# Altium schematic symbol library schlib.SchLib: 132 symbols (part 1 of 2)
Pins are listed as number, name and electrical type; pins without a type are passive.

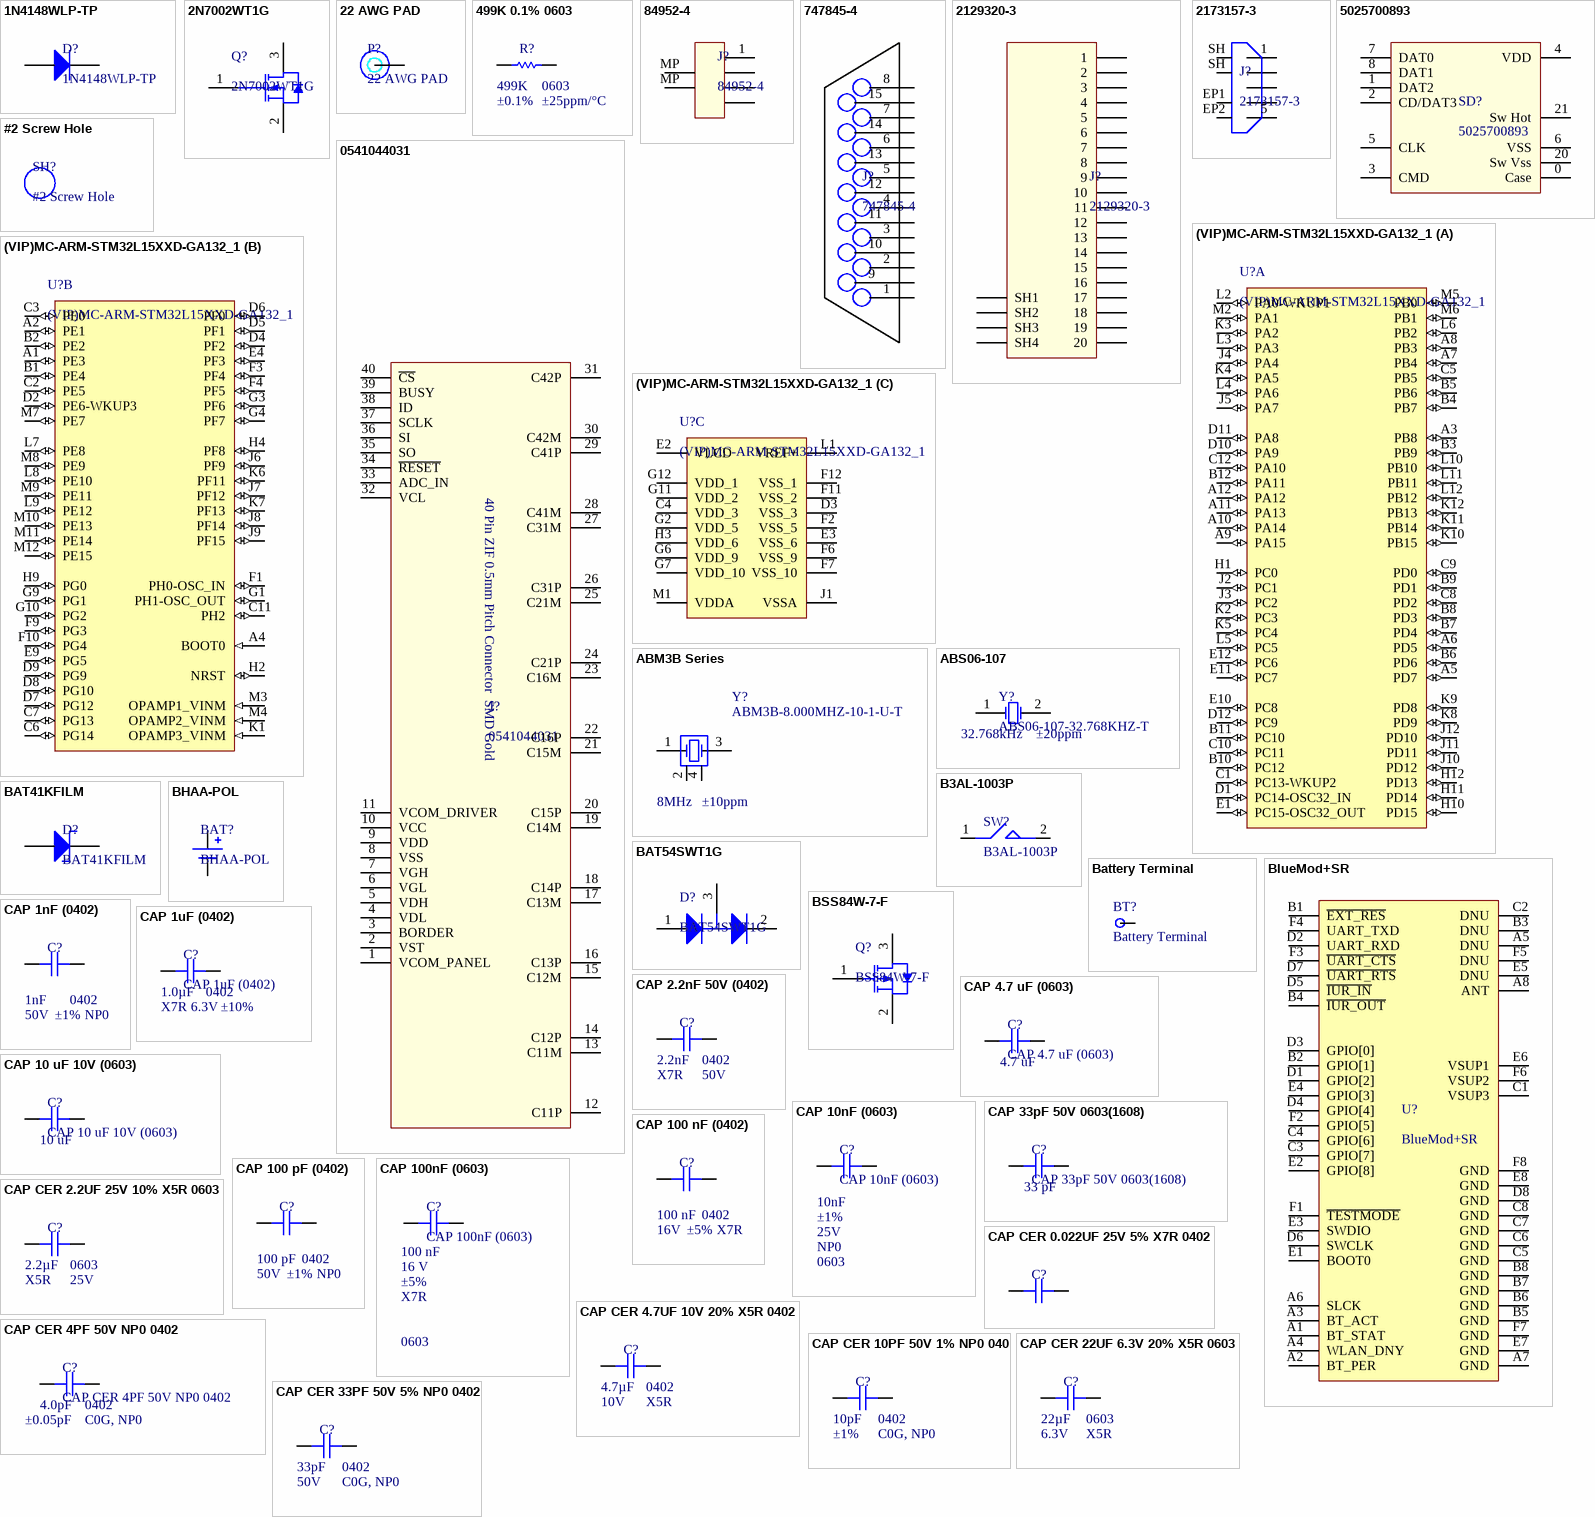
[diagram p0: symbols 1N4148WLP-TP to CAP CER 33PF 50V 5% NP0 0402]

## 1N4148WLP-TP
designator D?
DIODE SMALL SIG 80V 0.1A SOD882; Diode Type: Standard; Current - Average Rectified (Io): 100mA; Voltage - Forward (Vf) (Max) @ If: 1.2V @ 100mA; Speed: Small Signal =< 200mA (Io), Any Speed; Reverse Recovery Time (trr): 4ns; Current - Reverse Leakage @ Vr: 100nA @ 80V; Voltage - DC Reverse (Vr) (Max): 80V; Package / Case: SOD-882
footprint SOD-882 (SOD-882 Surface Mount Package)
pins: 1, 2

## 2N7002WT1G
designator Q?
MOSFET N-CH 60V 310MA SOT323; FET Type: MOSFET N-Channel, Metal Oxide; FET Feature: Logic Level Gate; Current - Continuous Drain (Id) @ 25°C: 310mA (Ta); Rds On (Max) @ Id, Vgs: 1.6 Ohm @ 500mA, 10V; Vgs(th) (Max) @ Id: 2.5V @ 250µA; Gate Charge (Qg) @ Vgs: 0.7nC @ 4.5V; Input Capacitance (Ciss) @ Vds: 24.5pF @ 20V; Power - Max: 280mW; Drain to Source Voltage (Vdss): 60V; Package / Case: SC-70, SOT-323
footprint SOT-323 (SOT23, 3-Leads, Body 2x1.25mm, Pitch 0.65mm)
pins: 1 G, 2 S, 3 D

## 22 AWG PAD
designator P?
Pad fpr 22 awg wire
footprint 22 AWG PAD (Pad/Via for 22 awg wire)
pins: VIA

## 499K 0.1% 0603
designator R?  value 499K  Size / Package: 0603  Tolerance: ±0.1%  Temperature Coefficient: ±25ppm/°C  (hidden comment: 499K 0.1% 0603)
499K 0.1W 0.1% 0603 (1608 Metric) SMD; Power (Watts): 0.063W, 1/16W
footprint RES 0603 (Chip Resistor, Body 1.6x0.8mm, IPC Medium Density)
pins: 1, 2

## 84952-4
designator J?
CONN FPC BOTTOM 4POS 1.00MM R/A; Connector/Contact Type: Contacts, Bottom; Number of Positions: 4; Pitch: 0.039" (1.00mm); FFC,FCB Thickness: 0.30mm; Locking Feature: Slide Lock; Cable End Type: Straight; Flat Flex Type: FPC; Mounting Type: Surface Mount, Right Angle; Termination: Solder; Contact Material: Phosphor Bronze; Contact Finish: Tin
footprint 84952-4 (CONN FPC BOTTOM 4POS 1.00MM R/A)
pins: 1, 2, 3, 4, MP, MP

## 747845-4
designator J?
CONN D-SUB RCPT R/A 15POS PCB AU; Connector Type: Receptacle, Female Sockets; Number of Positions: 15; Flange Feature: Housing/Shell (4-40); Voltage Rating: 125V; Current Rating: 6A; Connector Style: D-Sub; Number of Rows: 2; Shell Size, Connector Layout: 2 (DA, A); Contact Type: Signal; Mounting Type: Through Hole, Right Angle; Termination: Solder; Features: Board Lock, Ground Strap; Shell Material, Finish: Steel, Tin Plated; Contact Finish: Gold; Contact Finish Thickness: 30µin (0.76µm); Operating Temperature: -55°C ~ 105°C; Housing Material: Thermoplastic
footprint 747845-4 (CONN D-SUB RCPT R/A 15POS PCB AU)
pins: 1, 2, 3, 4, 5, 6, 7, 8, 9, 10, 11, 12, 13, 14, 15

## 2129320-3
designator J?
Mini Displayport Reverse Offset
footprint 2129320-3 (Mini Displayport Reverse Offset)
pins: 1, 2, 3, 4, 5, 6, 7, 8, 9, 10, 11, 12, 13, 14, 15, 16, 17, 18, 19, 20, SH1, SH2, SH3, SH4

## 2173157-3
designator J?
USB Connectors SPLASH PROOF MICRO 5P USB B-TYPE; Number of Ports: 1; Number of Contacts: 5; Gender: Female; Brand: TE Connectivity; Mounting Angle: Right; Product: Micro USB Type B Connectors; Standard: USB 2.0; Termination Style: SMD; Contact Material: Copper Alloy; Contact Plating: Gold; Shell Plating: Tin
footprint 2173157-3 (Splash Proof Micro USB B-Type low MOQ)
pins: 1 5V, 2 D-, 3 D+, 4 ID, 5 GND, EP1, EP2, SH, SH

## 0541044031
designator J?
CONN FFC 40POS 0.50MM SMD R/A; Flat Flex Type: FFC, FPC; Connector/Contact Type: Contacts, Top; Number of Positions: 40; Pitch: 0.020" (0.50mm); FFC, FCB Thickness: 0.30mm; Locking Type: Slide Lock; Cable End Type: Straight, Tapered; Actuator Material: Polyphenylene Sulfide (PPS), Glass Filled; Voltage Rating: 50V; Current Rating: 0.5A; Mounting Type: Surface Mount, Right Angle; Termination: Solder; Height Above Board: 0.079" (2.00mm); Contact Material: Phosphor Bronze; Contact Finish: Gold; Housing Type: Polyamide (PA46), Nylon 4/6, Glass Filled; Features: Solder Retention, Zero Insertion Force (ZIF); Operating Temperature: -20°C ~ 85°C
footprint 0541044031 (CONN FFC 40POS 0.50MM SMD R/A)
pins: 1 VCOM_PANEL, 2 VST, 3 BORDER, 4 VDL, 5 VDH, 6 VGL, 7 VGH, 8 VSS, 9 VDD, 10 VCC, 11 VCOM_DRIVER, 12 C11P, 13 C11M, 14 C12P, 15 C12M, 16 C13P, 17 C13M, 18 C14P, 19 C14M, 20 C15P, 21 C15M, 22 C16P, 23 C16M, 24 C21P, 25 C21M, 26 C31P, 27 C31M, 28 C41M, 29 C41P, 30 C42M, 31 C42P, 32 VCL, 33 ADC_IN, 34 ~{RESET}, 35 SO, 36 SI, 37 SCLK, 38 ID, 39 BUSY, 40 ~{CS}
text: 40 Pin ZIF 0.5mm Pitch Connector  SMD Gold

## 5025700893
designator SD?
CONN MICRO SD CARD PUSH-PUSH R/A; Card Type: Secure Digital - microSD™; Number of Positions: 10 (8 + 2); Card Type: Connector and Ejector; Insertion, Removal Method: Push In, Push Out; Mounting Type: Surface Mount, Right Angle; Features: Switch; Height Above Board: 0.071" (1.80mm); Contact Finish: Gold; Contact Finish Thickness: 20µin (0.51µm)
footprint 502570 (CONN MICRO SD CARD PUSH-PUSH R/A)
pins: 0 Case, 1 DAT2, 2 CD/DAT3, 3 CMD, 4 VDD, 5 CLK, 6 VSS, 7 DAT0, 8 DAT1, 20 Sw Vss, 21 Sw Hot

## #2 Screw Hole
designator SH?
Symbol for #2 Screw Hole
footprint #2 Screw Hole (Screw Hole for #2 Screw)

## (VIP)MC-ARM-STM32L15XXD-GA132_1
designator U?
MCU ARM 384KB FLASH 132BGA; Core Processor: ARM® Cortex®-M3; Core Size: 32-Bit; Soeed: 32MHz; Connectivity: I²C, IrDA, LIN, SPI, UART/USART, USB; number of I/O: 109; Program Memory Size: 384KB (384K x 8); EEPROM Size: 12K x 8; RAM Size: 48K x 8; Voltage - Supply (Vcc/Vdd): 1.8 V ~ 3.6 V; Program Memory Type: FLASH; Operating Temperature: -40°C ~ 85°C; Package / Case: 132-UFBGA
footprint (VIP)STM-UFBGA132 (BGA, 132-Balls, Body 7x7mm, Pitch 0.5mm)
part A pins: A3 PB8 (io) "PB8/TIM4_CH3/TIM10_CH1/I2C1_SCL/LCD_SEG16/SDIO_D4", A5 PD7 (io) "PD7/TIM9_CH2/USART2_CK/FSMC_NE1", A6 PD5 (io) "PD5/USART2_TX/FSMC_NWE", A7 PB4 (io) "PB4/NJTRST/TIM3_CH1/SPI1_MISO/SPI3_MISO/LCD_SEG8/COMP2_INP", A8 PB3 (io) "PB3/JTDO/TIM2_CH2/SPI1_SCK/SPI3_SCK/I2S3_CK/LCD_SEG7/COMP2_INM", A9 PA15 (io) "PA15/JTDI/TIM2_CH1_ETR/SPI1_NSS/SPI3_NSS/I2S3_WS/LCD_SEG17", A10 PA14 (io) "PA14/JTCK-SWCLK", A11 PA13 (io) "PA13/JTMS-SWDAT", A12 PA12 (io) "PA12/USART1_RTS/USB_DP/SPI1_MOSI", B3 PB9 (io) "PB9/TIM4_CH4/TIM11_CH1/I2C1_SDA/LCD_COM3/SDIO_D5", B4 PB7 (io) "PB7/TIM4_CH2/I2C1_SDA/USART1_RX/PVD_IN/FSMC_NADV/COMP2_INP", B5 PB6 (io) "PB6/TIM4_CH1/I2C1_SCL/USART1_TX/COMP2_INP", B6 PD6 (io) "PD6/USART2_RX/FSMC_NWAIT", B7 PD4 (io) "PD4/SPI2_MOSI/I2S2_SD/USART2_RTS/FSMC_NOE", B8 PD3 (io) "PD3/SPI2_MISO/USART2_CTS/FSMC_CLK", B9 PD1 (io) "PD1/SPI2_SCK/I2S2_CK/FSMC_D3", B10 PC12 (io) "PC12/SPI3_MOSI/I2S3_SD/USART3_CK/UART5_TX/LCD_SEG30/LCD_SEG42/LCD_COM6/SDIO_CK", B11 PC10 (io) "PC10/SPI3_SCK/I2S3_CK/USART3_TX/UART4_TX/LCD_SEG28/LCD_SEG40/LCD_COM4/SDIO_D2", B12 PA11 (io) "PA11/USART1_CTS/USB_DM/SPI1_MISO", C1 PC13-WKUP2 (io) "PC13-WKUP2/PC13/WKUP2/RTC_TAMP1/RTC_TS/RTC_OUT", C5 PB5 (io) "PB5/TIM3_CH2/I2C1_SMBA/SPI1_MOSI/SPI3_MOSI/I2S3_SD/LCD_SEG9/COMP2_INP", C8 PD2 (io) "PD2/TIM3_ETR/UART5_RX/LCD_SEG31/LCD_SEG43/LCD_COM7/SDIO_CMD", C9 PD0 (io) "PD0/TIM9_CH1/SPI2_NSS/I2S2_WS/FSMC_D2", C10 PC11 (io) "PC11/SPI3_MISO/USART3_RX/UART4_RX/LCD_SEG29/LCD_SEG41/LCD_COM5/SDIO_D3", C12 PA10 (io) "PA10/USART1_RX/LCD_COM2", D1 PC14-OSC32_IN (io) "PC14-OSC32_IN/PC14/OSC32_IN", D10 PA9 (io) "PA9/USART1_TX/LCD_COM1", D11 PA8 (io) "PA8/USART1_CK/MCO/LCD_COM0", D12 PC9 (io) "PC9/TIM3_CH4/LCD_SEG27/SDIO_D1", E1 PC15-OSC32_OUT (io) "PC15-OSC32_OUT/PC15/OSC32_OUT", E10 PC8 (io) "PC8/TIM3_CH3/LCD_SEG26/SDIO_D0", E11 PC7 (io) "PC7/TIM3_CH2/I2S3_MCK/LCD_SEG25/SDIO_D7", E12 PC6 (io) "PC6/TIM3_CH1/I2S2_MCK/LCD_SEG24/SDIO_D6", H1 PC0 (io) "PC0/LCD_SEG18/ADC_IN10/COMP1_INP", H10 PD15 (io) "PD15/TIM4_CH4/LCD_SEG35/FSMC_D1", H11 PD14 (io) "PD14/TIM4_CH3/LCD_SEG34/FSMC_D0", H12 PD13 (io) "PD13/TIM4_CH2/LCD_SEG33/FSMC_A18", J2 PC1 (io) "PC1/LCD_SEG19/ADC_IN11/COMP1_INP/OPAMP3_VINP", J3 PC2 (io) "PC2/LCD_SEG20/ADC_IN12/COMP1_INP", J4 PA4 (io) "PA4/SPI1_NSS/SPI3_NSS/I2S3_WS/USART2_CK/ADC_IN4/DAC_OUT1/COMP1_INP", J5 PA7 (io) "PA7/TIM3_CH2/TIM11_CH1/SPI1_MOSI/LCD_SEG4/ADC_IN7/COMP1_INP", J10 PD12 (io) "PD12/TIM4_CH1/USART3_RTS/LCD_SEG32/FSMC_A17", J11 PD11 (io) "PD11/USART3_CTS/LCD_SEG31/FSMC_A16", J12 PD10 (io) "PD10/USART3_CK/LCD_SEG30/FSMC_D15", K2 PC3 (io) "PC3/LCD_SEG21/ADC_IN13/COMP1_INP/OPAMP3_VOUT", K3 PA2 (io) "PA2/TIM2_CH3/TIM5_CH3/TIM9_CH1/USART2_TX/LCD_SEG1/ADC_IN2/COMP1_INP", K4 PA5 (io) "PA5/TIM2_CH1_ETR/SPI1_SCK/ADC_IN5/DAC_OUT2/COMP1_INP", K5 PC4 (io) "PC4/LCD_SEG22/ADC_IN14/COMP1_INP", K8 PD9 (io) "PD9/USART3_RX/LCD_SEG29/FSMC_D14", K9 PD8 (io) "PD8/USART3_TX/LCD_SEG28/FSMC_D13", K10 PB15 (io) "PB15/TIM11_CH1/SPI2_MOSI/I2S2_SD/LCD_SEG15/ADC_IN21/COMP1_INP/RTC_REFIN", K11 PB14 (io) "PB14/TIM9_CH2/SPI2_MISO/USART3_RTS/LCD_SEG14/ADC_IN20/COMP1_INP", K12 PB13 (io) "PB13/TIM9_CH1/SPI2_SCK/I2S2_CK/USART3_CTS/LCD_SEG13/ADC_IN19/COMP1_INP", L2 PA0-WKUP1 (io) "PA0-WKUP1/PA0/WKUP1/RTC_TAMP2/TIM2_CH1_ETR/TIM5_CH1/USART2_CTS/ADC_IN0/COMP1_INP", L3 PA3 (io) "PA3/TIM2_CH4/TIM5_CH4/TIM9_CH2/USART2_RX/LCD_SEG2/ADC_IN3/COMP1_INP/OPAMP1_VOUT", L4 PA6 (io) "PA6/TIM3_CH1/TIM10_CH1/SPI1_MISO/LCD_SEG3/ADC_IN6/COMP1_INP/OPAMP2_VINP", L5 PC5 (io) "PC5/LCD_SEG23/ADC_IN15/COMP1_INP", L6 PB2 (io) "PB2/BOOT1/ADC_IN0B/COMP1_INP", L10 PB10 (io) "PB10/TIM2_CH3/I2C2_SCL/USART3_TX/LCD_SEG10", L11 PB11 (io) "PB11/TIM2_CH4/I2C2_SDA/USART3_RX/LCD_SEG11", L12 PB12 (io) "PB12/TIM10_CH1/I2C2_SMBA/SPI2_NSS/I2S2_WS/USART3_CK/LCD_SEG12/ADC_IN18/COMP1_INP", M2 PA1 (io) "PA1/TIM2_CH2/TIM5_CH2/USART2_RTS/LCD_SEG0/ADC_IN1/COMP1_INP/OPAMP1_VINP", M5 PB0 (io) "PB0/TIM3_CH3/LCD_SEG5/ADC_IN8/COMP1_INP/VREF_OUT/OPAMP2_VOUT", M6 PB1 (io) "PB1/TIM3_CH4/LCD_SEG6/ADC_IN9/COMP1_INP/VREF_OUT"
part B pins: A1 PE3 (io) "PE3/TIM3_CH1/LCD_SEG39/FSMC_A19/TRACED0", A2 PE1 (io) "PE1/TIM11_CH1/LCD_SEG37/FSMC_NBL1", A4 BOOT0 (in), B1 PE4 (io) "PE4/TIM3_CH2/FSMC_A20/TRACED1", B2 PE2 (io) "PE2/TIM3_ETR/LCD_SEG38/FSMC_A23/TRACECLK", C2 PE5 (io) "PE5/TIM9_CH1/FSMC_A21/TRACED2", C3 PE0 (io) "PE0/TIM4_ETR/TIM10_CH1/LCD_SEG36/FSMC_NBL0", C6 PG14 (io) "PG14/FSMC_A25", C7 PG13 (io) "PG13/FSMC_A24", C11 PH2 (io) "PH2/FSMC_A22", D2 PE6-WKUP3 (io) "PE6-WKUP3/PE6/WKUP3/RTC_TAMP3/TIM9_CH2/TRACED3", D4 PF2 (io) "PF2/FSMC_A2", D5 PF1 (io) "PF1/FSMC_A1", D6 PF0 (io) "PF0/FSMC_A0", D7 PG12 (io) "PG12/FSMC_NE4", D8 PG10 (io) "PG10/FSMC_NE3", D9 PG9 (io) "PG9/FSMC_NE2", E4 PF3 (io) "PF3/FSMC_A3", E9 PG5 (io) "PG5/FSMC_A15", F1 PH0-OSC_IN (io) "PH0-OSC_IN/PH0/OSC_IN", F3 PF4 (io) "PF4/FSMC_A4", F4 PF5 (io) "PF5/FSMC_A5", F9 PG3 (io) "PG3/FSMC_A13/ADC_IN11B/COMP1_INP", F10 PG4 (io) "PG4/FSMC_A14/ADC_IN12B/COMP1_INP", G1 PH1-OSC_OUT (io) "PH1-OSC_OUT/PH1/OSC_OUT", G3 PF6 (io) "PF6/TIM5_CH1/TIM5_ETR/ADC_IN27", G4 PF7 (io) "PF7/TIM5_CH2/ADC_IN28/COMP1_INP", G9 PG1 (io) "PG1/ADC_IN9B/COMP1_INP/FSMC_A11", G10 PG2 (io) "PG2/FSMC_A12/ADC_IN10B/COMP1_INP", H2 NRST (io), H4 PF8 (io) "PF8/TIM5_CH3/ADC_IN29/COMP1_INP", H9 PG0 (io) "PG0/ADC_IN8B/COMP1_INP/FSMC_A10", J6 PF9 (io) "PF9/TIM5_CH4/ADC_IN30/COMP1_INP", J7 PF12 (io) "PF12/ADC_IN2B/COMP1_INP/FSMC_A6", J8 PF14 (io) "PF14/ADC_IN6B/COMP1_INP/FSMC_A8", J9 PF15 (io) "PF15/ADC_IN7B/COMP1_INP/FSMC_A9", K1 OPAMP3_VINM (in), K6 PF11 (io) "PF11/ADC_IN1B/COMP1_INP", K7 PF13 (io) "PF13/ADC_IN3B/COMP1_INP/FSMC_A7", L7 PE8 (io) "PE8/FSMC_D5/ADC_IN23/COMP1_INP", L8 PE10 (io) "PE10/TIM2_CH2/FSMC_D7/ADC_IN25/COMP1_INP", L9 PE12 (io) "PE12/TIM2_CH4/SPI1_NSS/FSMC_D9", M3 OPAMP1_VINM (in), M4 OPAMP2_VINM (in), M7 PE7 (io) "PE7/FSMC_D4/ADC_IN22/COMP1_INP", M8 PE9 (io) "PE9/TIM2_CH1_ETR/FSMC_D6/ADC_IN24/COMP1_INP", M9 PE11 (io) "PE11/TIM2_CH3/FSMC_D8", M10 PE13 (io) "PE13/SPI1_SCK/FSMC_D10", M11 PE14 (io) "PE14/SPI1_MISO/FSMC_D11", M12 PE15 (io) "PE15/SPI1_MOSI/FSMC_D12"
part C pins: C4 VDD_3 (power), D3 VSS_3 (power), E2 VLCD (power), E3 VSS_6 (power), F2 VSS_5 (power), F6 VSS_9 (power), F7 VSS_10 (power), F11 VSS_2 (power), F12 VSS_1 (power), G2 VDD_5 (power), G6 VDD_9 (power), G7 VDD_10 (power), G11 VDD_2 (power), G12 VDD_1 (power), H3 VDD_6 (power), J1 VSSA (power), L1 VREF+ (power), M1 VDDA (power)

## ABM3B Series
designator Y?, comment ABM3B-8.000MHZ-10-1-U-T  Frequency: 8MHz  Frequency Stability: ±10ppm
CRYSTAL 8MHZ 10PF SMD; ESR (Equivalent Series Resistance): 200 Ohm; Operating Mode: Fundamental; Frequency Tolerance: ±10ppm; Load Capacitance: 10pF; Operating Temperature: -10°C ~ 60°C; Package / Case: 4-SMD, No Lead (DFN, LCC)
footprint ABM3B Series (Abaracon Corporation ABM3B Series Crystal Oscillators)
pins: 1, 2, 3, 4

## ABS06-107
designator Y?, comment ABS06-107-32.768KHZ-T  Frequency: 32.768kHz  Frequency Tolerance: ±20ppm
CRYSTAL 32.768 KHZ 4PF SMD; ESR (Equivalent Series Resistance): 60 kOhm; Operating Mode: Fundamental; Type: kHz Crystal (Tuning Fork); Load Capacitance: 4pF; Operating Temperature: -40°C ~ 85°C; Package / Case: 0805 (2012 Metric); Size / Dimension: 0.079" L x 0.047" W (2.00mm x 1.20mm); Height: 0.024" (0.60mm)
footprint ABS06-107 (Abracon Corporations ABS06-107 Tuning Fork Crystak)
pins: 1, 2

## B3AL-1003P
designator SW?
SWITCH TACTILE SPST-NO 0.05A 16V; Switch Function: Off-Mom; Current Rating @ Voltage: 0.05A @ 16VDC; Actuator Type: Square Button; Actuator Height off PCB, from Pins: 5.00mm; Actuator Orientation: Top Actuated; Outline: 6.90mm x 6.00mm; Circuit: SPST-NO; Mounting Type: Surface Mount; Termination Type: SMD (SMT) Tab
footprint B3AL-1003P
pins: 1, 2

## BAT41KFILM
designator D?
DIODE SCHOTTKY 100V 200MA SOD523; Current - Average Rectified (Io): 200mA (DC); Voltage - Forward (Vf) (Max) @ If: 1V @ 200mA; Speed: Small Signal =< 200mA (Io), Any Speed; Current - Reverse Leakage @ Vr: 100nA @ 50V; Capacitance @ Vr, F: 10pF @ 1V, 1MHz; Diode Type: Schottky; Voltage - DC Reverse (Vr) (Max): 100V; Package / Case: SOD-523
footprint BAT41KFILM (DIODE SCHOTTKY 100V 200MA SOD523)
pins: 1, 2

## BAT54SWT1G
designator D?
DIODE SCHOTTKY 30V 200MA SOT323; Diode Configuration: 1 Pair Series Connection; Voltage - Forward (Vf) (Max) @ If: 800mV @ 100mA; Speed: Small Signal =< 200mA (Io), Any Speed; Reverse Recovery Time (trr): 5ns; Current - Reverse Leakage @ Vr: 2µA @ 25V; Package / Caae: SC-70, SOT-323; Diode Type: Schottky; Voltage - DC Reverse (Vr) (Max): 30V; Current - Average Rectified (Io) (per Diode): 200mA
footprint SOT-323 (SOT23, 3-Leads, Body 2x1.25mm, Pitch 0.65mm)
pins: 1 A, 2 K, 3 K/A

## Battery Terminal
designator BT?
Via Hole for Battery Leads
footprint Battery Terminal (Via Hole for Battery Leads)
pins: BT

## BHAA-POL
designator BAT?
HOLDER BATT AA POLAR PROTECTION
footprint BHAA-POL (HOLDER BATT AA POLAR PROTECTION)
pins: 1 POS, 2 NEG

## BlueMod+SR
designator U?
Bluetooth Dual Mode Module with NFC Handover
footprint BlueMod+SR (Bluetooth Dual Mode Module with NFC Handover)
pins: A1 BT_STAT, A2 BT_PER, A3 BT_ACT, A4 WLAN_DNY, A5 DNU, A6 SLCK, A7 GND, A8 ANT, B1 ~{EXT_RES}, B2 GPIO[1], B3 DNU, B4 ~{IUR_OUT}, B5 GND, B6 GND, B7 GND, B8 GND, C1 VSUP3, C2 DNU, C3 GPIO[7], C4 GPIO[6], C5 GND, C6 GND, C7 GND, C8 GND, D1 GPIO[2], D2 UART_RXD, D3 GPIO[0], D4 GPIO[4], D5 ~{IUR_IN}, D6 SWCLK, D7 ~{UART_RTS}, D8 GND, E1 BOOT0, E2 GPIO[8], E3 SWDIO, E4 GPIO[3], E5 DNU, E6 VSUP1, E7 GND, E8 GND, F1 ~{TESTMODE}, F2 GPIO[5], F3 ~{UART_CTS}, F4 UART_TXD, F5 DNU, F6 VSUP2, F7 GND, F8 GND

## BSS84W-7-F
designator Q?
MOSFET P-CH 50V 130MA SOT323; FET Type: MOSFET P-Channel, Metal Oxide; FET Freature: Logic Level Gate; Current - Continuous Drain (Id) @ 25°C: 130mA (Ta); Rds On (Max) @ Id, Vgs: 10 Ohm @ 100mA, 5V; Vgs(th) (Max) @ Id: 2V @ 1mA; Input Capacitance (Ciss) @ Vds: 45pF @ 25V; Power - Max: 200mW; Drain to Source Voltage (Vdss): 50V
footprint SOT-323 (SOT23, 3-Leads, Body 2x1.25mm, Pitch 0.65mm)
pins: 1 G, 2 S, 3 D

## CAP 1nF (0402)
designator C?  Capacitance: 1nF  Tolerance: ±1%  Voltage - Rated: 50V  Temperature Coefficient: NP0  Package / Case: 0402  (hidden comment: CAP 1nF (0402))
CAP CER 1nF 50V 1% NP0 0402; Mounting Type: Surface Mount, MLCC; Operating Temperature: -55°C ~ 125°C; Size / Dimensions: 0.039" L x 0.020" W (1.00mm x 0.50mm); Thickness (Max): 0.022" (0.55mm)
footprint CAP 0402 (Chip Capacitor, Body 1.0x0.5mm, Height 0.6mm, IPC Medium Density)
pins: 1, 2

## CAP 1uF (0402)
designator C?  Capacitance: 1.0µF  Tolerance: ±10%  Voltage Rating: 6.3V  Temperature Coefficient: X7R  Package / Case: 0402
CAP CER 1UF 6.3V 10% X7R 0402; Mounting Type: Surface Mount, MLCC; Operating Temperature: -55°C ~ 125°C; Size / Dimensions: 0.039" L x 0.020" W (1.00mm x 0.50mm); Thickness (Max): 0.022" (0.55mm)
footprint CAP 0402 (Chip Capacitor, Body 1.0x0.5mm, Height 0.6mm, IPC Medium Density)
pins: 1, 2

## CAP 2.2nF 50V (0402)
designator C?  Capacitance: 2.2nF  Voltage - Rated: 50V  Temperature Coefficient: X7R  Package / Case: 0402  (hidden comment: CAP 2.2nF 50V (0402))
CAP CER 2200PF 50V 10% X7R 0402; Tolerance: ±10%; Operating Temperature: -55°C ~ 125°C
footprint CAP 0402 (Chip Capacitor, Body 1.0x0.5mm, Height 0.6mm, IPC Medium Density)
pins: 1, 2

## CAP 4.7 uF (0603)
designator C?  value 4.7 uF
CAP 4.7 uF 10 V 0603 (1608 Metric Thickness 1mm SMD
footprint CAP 0603 (Chip Capacitor, Body 1.0x0.5mm, Height 0.55mm, IPC Medium Density)
pins: 1, 2

## CAP 10 uF 10V (0603)
designator C?  value 10 uF
CAP 10 uF 10V +10% 0603 (1608 Metric) Thickness 1mm SMD
footprint CAP 0603 (Chip Capacitor, Body 1.0x0.5mm, Height 0.55mm, IPC Medium Density)
pins: 1, 2

## CAP 10nF (0603)
designator C?  Package / Case: 0603  Capacitance: 10nF  Voltage - Rated: 25V  Tolerance: ±1%  Temperature Coefficient: NP0
CAP 10nF 25V 0603 1mm Thickness SMD; Mounting Type: Surface Mount, MLCC; Operating Temperature: -55°C ~ 125°C; Size / Dimensions: 0.063" L x 0.031" W (1.60mm x 0.80mm); Thickness (Max): 0.035" (0.90mm)
footprint CAP 0603 (Chip Capacitor, Body 1.0x0.5mm, Height 0.55mm, IPC Medium Density)
pins: 1, 2

## CAP 33pF 50V 0603(1608)
designator C?  value 33 pF
CAP 33pF 50V +5% 0603(1608 Metric) Thickness 1mm SMD
footprint CAP 0603 (Chip Capacitor, Body 1.0x0.5mm, Height 0.55mm, IPC Medium Density)
pins: 1, 2

## CAP 100 nF (0402)
designator C?  Capacitance: 100 nF  Tolerance: ±5%  Voltage - Rated: 16V  Temperature Coefficient: X7R  Package / Case: 0402  (hidden comment: CAP 100 nF (0402))
CAP CER 0.1UF 16V 5% X7R 0402; Mounting Type: Surface Mount, MLCC; Operating Temperature: -55°C ~ 125°C; Size / Dimensions: 0.039" L x 0.020" W (1.00mm x 0.50mm); Thickness (Max): 0.022" (0.55mm)
footprint CAP 0402 (Chip Capacitor, Body 1.0x0.5mm, Height 0.6mm, IPC Medium Density)
pins: 1, 2

## CAP 100 pF (0402)
designator C?  Capacitance: 100 pF  Tolerance: ±1%  Voltage - Rated: 50V  Temperature Coefficient: NP0  Package / Case: 0402  (hidden comment: CAP 100 pF (0402))
CAP CER 100PF 50V 1% NP0 0402; Mounting Type: Surface Mount, MLCC; Operating Temperature: -55°C ~ 125°C; Size / Dimensions: 0.039" L x 0.020" W (1.00mm x 0.50mm); Thickness (Max): 0.022" (0.55mm)
footprint CAP 0402 (Chip Capacitor, Body 1.0x0.5mm, Height 0.6mm, IPC Medium Density)
pins: 1, 2

## CAP 100nF (0603)
designator C?  Package / Case: 0603  Capacitance: 100 nF  Voltage - Rated: 16 V  Tolerance: ±5%  Temperature Coefficient: X7R
CAP 100nF 16V 0603 I1608 Metric) 1mm Thickness SMD; Mounting Type: Surface Mount, MLCC; Operating Temperature: -55°C ~ 125°C; Size / Dimensions: 0.063" L x 0.031" W (1.60mm x 0.80mm); Thickness (Max): 0.035" (0.90mm)
footprint CAP 0603 (Chip Capacitor, Body 1.0x0.5mm, Height 0.55mm, IPC Medium Density)
pins: 1, 2

## CAP CER 0.022UF 25V 5% X7R 0402
designator C?  (value not drawn)
Capacitance: 22nF; Tolerance: ±5%; Voltage - Rated: 25V; Temperature Coefficient: X7R; Operating Temperature: -55°C ~ 125°C; Package / Case: 0402
footprint CAP 0402 (Chip Capacitor, Body 1.0x0.5mm, Height 0.6mm, IPC Medium Density)
pins: 1, 2

## CAP CER 2.2UF 25V 10% X5R 0603
designator C?  Capacitance: 2.2µF  Voltage - Rated: 25V  Temperature Coefficient: X5R  Case: 0603  (hidden comment: CAP CER 2.2UF 25V 10% X5R 0603)
CAP CER 2.2uF 25V 0603; Tolerance: ±10%; Operating Temperature: -55°C ~ 85°C
footprint CAP 0603 (Chip Capacitor, Body 1.0x0.5mm, Height 0.55mm, IPC Medium Density)
pins: 1, 2

## CAP CER 4.7UF 10V 20% X5R 0402
designator C?  Voltage - Rated: 10V  Temperature Coefficient: X5R  Capacitance: 4.7µF  Package / Case: 0402  (hidden comment: CAP CER 4.7UF 10V 20% X5R 0402)
CAP 4.7uF 10V 0402; Mounting Type: Surface Mount, MLCC; Operating Temperature: -55°C ~ 85°C; Size / Dimensions: 0.039" L x 0.020" W (1.00mm x 0.50mm); Thickness (Max): 0.022" (0.55mm); Tolerance: ±20%
footprint CAP 0402 (Chip Capacitor, Body 1.0x0.5mm, Height 0.6mm, IPC Medium Density)
pins: 1, 2

## CAP CER 4PF 50V NP0 0402
designator C?  Caoacitance: 4.0pF  Tolerance: ±0.05pF  Temperature Coefficient: C0G, NP0  Package / Case: 0402
CAP 4PF 50V 0402; Manufacturer Part Number: GRM1555C1H4R0WA01D; Voltage - Rated: 50V; Operating Temperature: -55°C ~ 125°C
footprint CAP 0402 (Chip Capacitor, Body 1.0x0.5mm, Height 0.6mm, IPC Medium Density)
pins: 1, 2

## CAP CER 10PF 50V 1% NP0 040
designator C?  Capacitance: 10pF  Tolerance: ±1%  Temperature Coefficient: C0G, NP0  Package / Case: 0402  (hidden comment: CAP CER 10PF 50V 1% NP0 040)
CAP 10PF 50V 0402; Manufacturer Part Number: GRM1555C1H100FA01D; Voltage - Rated: 50V; Operating Temperature: -55°C ~ 125°C
footprint CAP 0402 (Chip Capacitor, Body 1.0x0.5mm, Height 0.6mm, IPC Medium Density)
pins: 1, 2

## CAP CER 22UF 6.3V 20% X5R 0603
designator C?  Capacitance: 22µF  Voltage - Rated: 6.3V  Temperature Coefficient: X5R  Package / Case: 0603  (hidden comment: CAP CER 22UF 6.3V 20% X5R 0603)
CAP 22uF 6.3V 0603; Tolerance: ±20%; Operating Temperature: -55°C ~ 85°C
footprint CAP 0603 (Chip Capacitor, Body 1.0x0.5mm, Height 0.55mm, IPC Medium Density)
pins: 1, 2

## CAP CER 33PF 50V 5% NP0 0402
designator C?  Capacitance: 33pF  Voltage - Rated: 50V  Temperature Coefficient: C0G, NP0  Package / Case: 0402  (hidden comment: CAP CER 33PF 50V 5% NP0 0402)
CAP 33pF 50V 0402; Tolerance: ±5%; Mounting Type: Surface Mount, MLCC; Operating Temperature: -55°C ~ 125°C; Size / Dimensions: 0.040" L x 0.020" W (1.02mm x 0.51mm); Thickness (Max): 0.024" (0.61mm)
footprint CAP 0402 (Chip Capacitor, Body 1.0x0.5mm, Height 0.6mm, IPC Medium Density)
pins: 1, 2

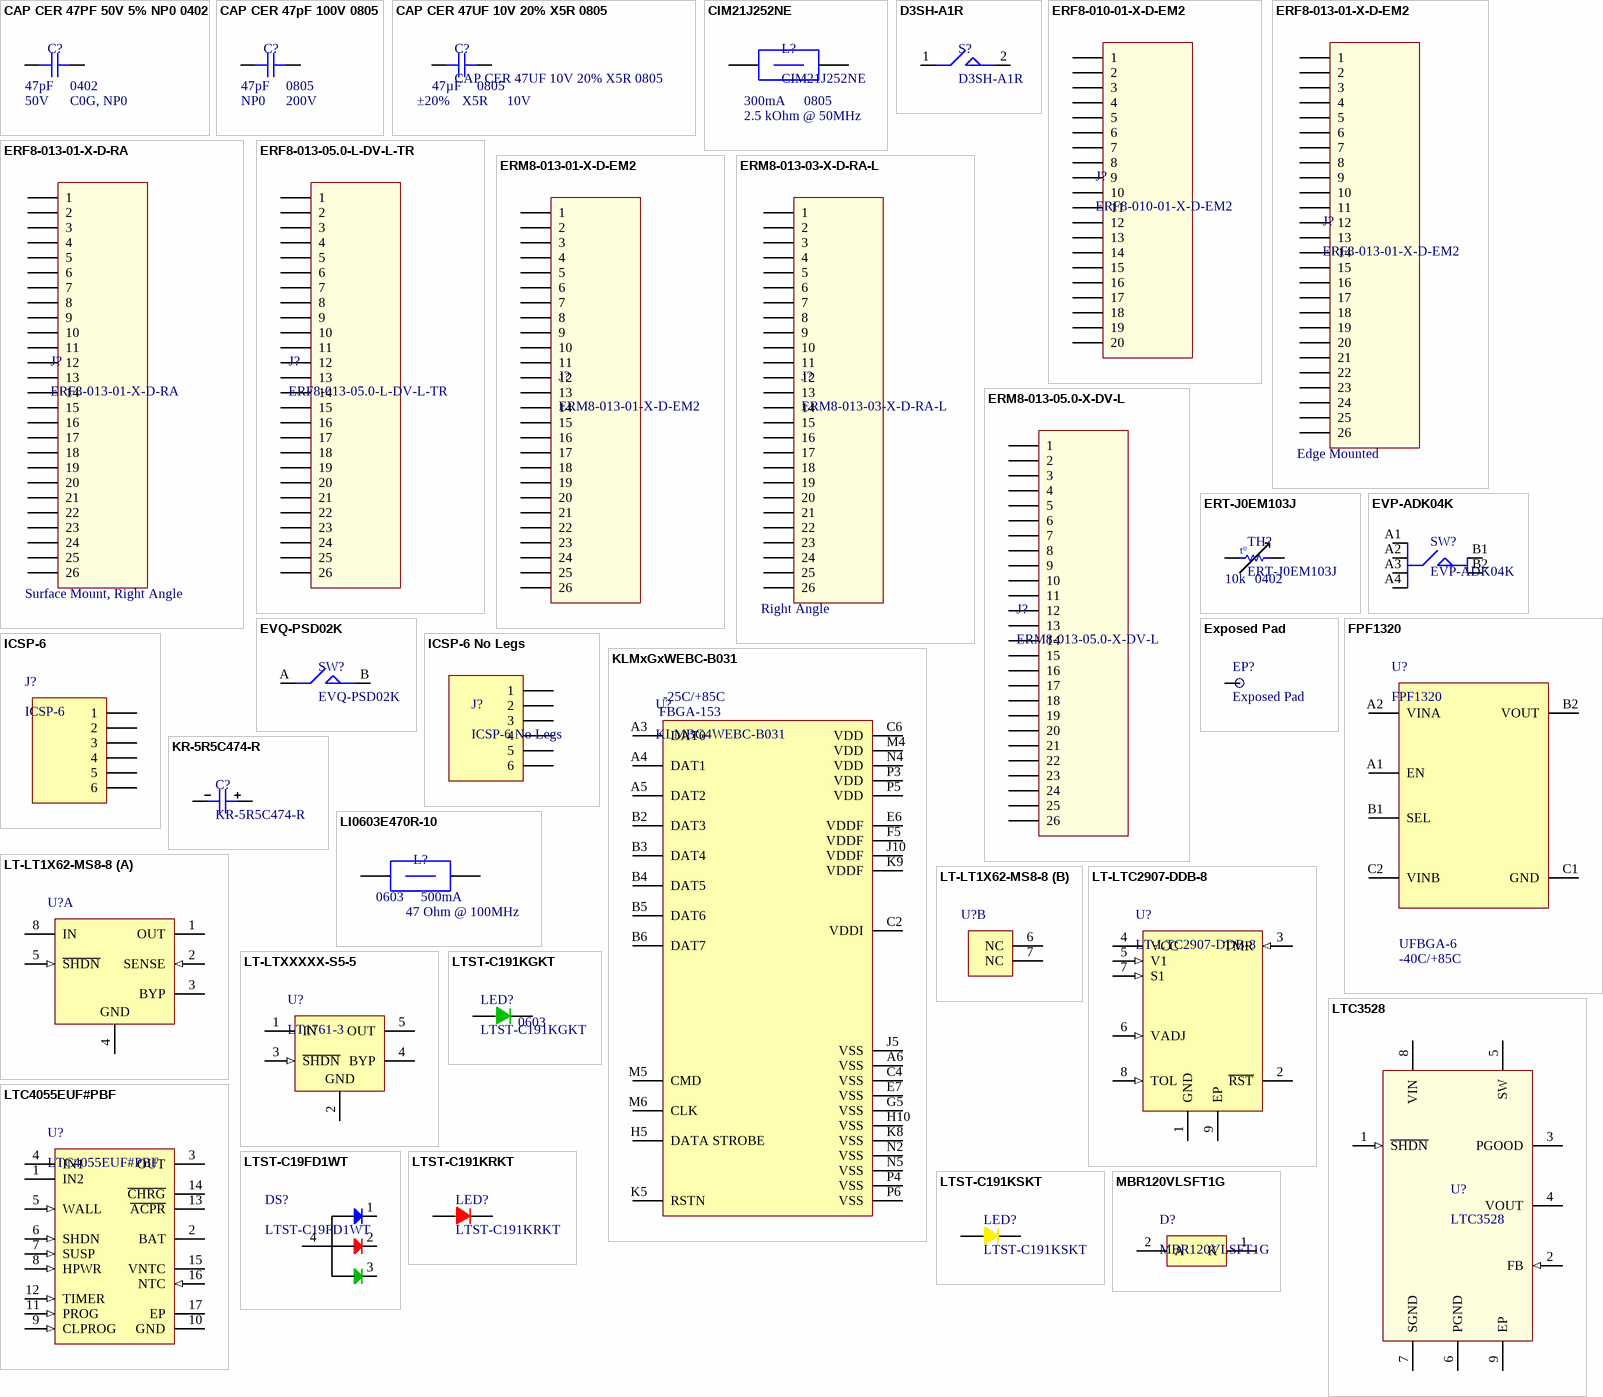
[diagram p1: symbols CAP CER 47PF 50V 5% NP0 0402 to MBR120VLSFT1G]

## CAP CER 47PF 50V 5% NP0 0402
designator C?  Capacitance: 47pF  Voltage - Rated: 50V  Temperature Coefficient: C0G, NP0  Package / Case: 0402  (hidden comment: CAP CER 47PF 50V 5% NP0 0402)
Tolerance: ±5%; Operating Temperature: -55°C ~ 125°C
footprint CAP 0402 (Chip Capacitor, Body 1.0x0.5mm, Height 0.6mm, IPC Medium Density)
pins: 1, 2

## CAP CER 47pF 100V 0805
designator C?, comment Capacitance: 47pF  Voltage - Rated: 200V  Temperature Coefficient: NP0  Case: 0805  (hidden comment: CAP CER 47pF 100V 1% NP0 0805)
CAP CER 47pF 100V 0805; Tolerance: ±1%; Operating Temperature: -55°C ~ 85°C
footprint CAPC0805(2012)100_N (Chip Capacitor, Body 2.0x1.2mm, Height 1.0mm, IPC Medium Density)
pins: 1, 2

## CAP CER 47UF 10V 20% X5R 0805
designator C?  Capacitance: 47µF  Tolerance: ±20%  Voltage - Rated: 10V  Temperature Coefficient: X5R  Package / Case: 0805
Manufacturer Part Number: C2012X5R1A476M125AC; Operating Temperature: -55°C ~ 85°C
footprint CAPC0805(2012)100_N (Chip Capacitor, Body 2.0x1.2mm, Height 1.0mm, IPC Medium Density)
pins: 1, 2

## CIM21J252NE
designator L?  Impedance @ Frequency: 2.5 kOhm @ 50MHz  Current Rating: 300mA  Package / Case: 0805
FERRITE CHIP 2500 OHM 300MA 0805; DC Resistance (DCR): 700 mOhm Max; Filter Type: Differential Mode - Single
footprint IND 0805 (Chip Inductor, 2-Leads, Body 2.00x1.25mm, IPC Medium Density)
pins: 1, 2

## D3SH-A1R
designator S?
SWITCH SPST-NO RT W/BOSS 30V
footprint D3SH-A1R (SWITCH SPST-NO RT W/BOSS 30V)
pins: 1, 2

## ERF8-010-01-X-D-EM2
designator J?
0,80 mm Edge Rate® Rugged High Speed Socket Strip, Edge Mount; Mounting Type: Edge Mounted
footprint ERF8-010-01-X-D-EM2 (0,80 mm Edge Rate® Rugged High Speed Socket Strip, Edge Mount)
pins: 1, 2, 3, 4, 5, 6, 7, 8, 9, 10, 11, 12, 13, 14, 15, 16, 17, 18, 19, 20

## ERF8-013-01-X-D-EM2
designator J?  Mounting Type: Edge Mounted
0,80 mm Edge Rate® Rugged High Speed Socket Strip, Edge Mount
footprint ERF8-013-01-X-D-EM2 (0,80 mm Edge Rate® Rugged High Speed Socket Strip, Edge Mount)
pins: 1, 2, 3, 4, 5, 6, 7, 8, 9, 10, 11, 12, 13, 14, 15, 16, 17, 18, 19, 20, 21, 22, 23, 24, 25, 26

## ERF8-013-01-X-D-RA
designator J?  Mounting Type: Surface Mount, Right Angle
0,80 mm Edge Rate® Rugged High Speed Socket Strip, Edge Mount; Connector Type: Socket, Center Strip Contacts; Number of Positions: 26; Pitch: 0.031" (0.80mm); Number of Rows: 2; Features: Board Lock; Contact Finish: Gold; Contact Finish Thickness: 10µin (0.25µm); Height Above Board: 0.246" (6.25mm)
footprint ERF8-013-01-X-D-RA (0,80 mm Edge Rate® Rugged High Speed Socket Strip, Right Angle)
pins: 1, 2, 3, 4, 5, 6, 7, 8, 9, 10, 11, 12, 13, 14, 15, 16, 17, 18, 19, 20, 21, 22, 23, 24, 25, 26

## ERF8-013-05.0-L-DV-L-TR
designator J?
0,80 mm Edge Rate® Rugged High Speed Socket Strip, Edge Mount; Mounting Type: Vertical Mount
footprint ERF8-013-05.0-L-DV-L-TR (0,80 mm Edge Rate® Rugged High Speed Socket Strip)
pins: 1, 2, 3, 4, 5, 6, 7, 8, 9, 10, 11, 12, 13, 14, 15, 16, 17, 18, 19, 20, 21, 22, 23, 24, 25, 26

## ERM8-013-01-X-D-EM2
designator J?
0,80 mm Edge Rate® Rugged High Speed Terminal Strip, Right Angle; Mounting Type: Edge Connector
footprint ERM8-013-01-X-D-EM2 (0,80 mm Edge Rate® Rugged High Speed Terminal Strip, Edge Mount)
pins: 1, 2, 3, 4, 5, 6, 7, 8, 9, 10, 11, 12, 13, 14, 15, 16, 17, 18, 19, 20, 21, 22, 23, 24, 25, 26

## ERM8-013-03-X-D-RA-L
designator J?  Mounting Type: Right Angle
0,80 mm Edge Rate® Rugged High Speed Terminal Strip, Right Angle
footprint ERM8-013-03-X-D-RA-L (0,80 mm Edge Rate® Rugged High Speed Terminal Strip, Right Angle)
pins: 1, 2, 3, 4, 5, 6, 7, 8, 9, 10, 11, 12, 13, 14, 15, 16, 17, 18, 19, 20, 21, 22, 23, 24, 25, 26

## ERM8-013-05.0-X-DV-L
designator J?
0,80 mm Edge Rate® Rugged High Speed Terminal Strip
footprint ERM8-013-05.0-X-DV-L (0,80 mm Edge Rate® Rugged High Speed Terminal Strip)
pins: 1, 2, 3, 4, 5, 6, 7, 8, 9, 10, 11, 12, 13, 14, 15, 16, 17, 18, 19, 20, 21, 22, 23, 24, 25, 26

## ERT-J0EM103J
designator TH?  Resistance in Ohms @ 25°C: 10k  Package / Case: 0402
THERMISTOR NTC 10K OHM 5% 0402; B Value Tolerance: ±1%; B25/50: 3375K; B25/85: 3435K; Resistance Tolerance: ±5%; Operating Temperature: -40°C ~ 125°C
footprint ERT-J0EM103J (THERMISTOR NTC 10K OHM 5% 0402)
pins: 1, 2
text: t°

## EVP-ADK04K
designator SW?
SWITCH TACTILE SPST-NO 0.05A 12V; Contact Rating @ Voltage: 0.05A @ 12VDC; Actuator Type: Open Center; Actuator Height off PCB, from Pins: 4.70mm; Actuator Orientation: Top Actuated; Outline: 10.00mm x 10.00mm; Operating Force: 400gf; Switch Travel: 1.00mm; Mechanical Life: 100,000; Circuit: SPST-NO; Termination Style: J Lead; Operating Temperature: -40°C ~ 85°C
footprint EVP-ADK04K (SWITCH TACTILE SPST-NO 0.05A 12V)
pins: A1, A2, A3, A4, B1, B2

## EVQ-PSD02K
designator SW?
SWITCH TACTILE SPST-NO 0.05A 12V; Switch Function: Off-Mom; Contact Rating @ Voltage: 0.05A @ 12VDC; Actuator Type: Standard; Actuator Orientation: Side Actuated; Outline: 6.10mm x 4.00mm; Operating Force: 160gf; Switch Travel: 0.30mm; Circuit: SPST-NO; Mounting Type: Surface Mount, Right Angle; Termination Type: J Lead; Operating Temperature: -20°C ~ 70°C
footprint EVQ-PSD02K (SWITCH TACTILE SPST-NO 0.05A 12V)
pins: A, B

## Exposed Pad
designator EP?
Exposed copper pad for shorting/event button on PCB
footprint Exposed Pad (Exposed Pad for shorting/event button on PCB)
pins: EP

## FPF1320
designator U?  Operating Temperature: -40C/+85C  Package: UFBGA-6
Dual-Input Single-Ouptu Advanced Power Switch, 6WLCSP
footprint BGA6C50P2X3_96X146X62 (BGA, 6-Leads, Body 0.96x1.46mmx0.63mm, Pitch 0.50mm)
pins: A1 EN, A2 VINA, B1 SEL, B2 VOUT, C1 GND, C2 VINB

## ICSP-6
designator J?
6 Pin Connector
footprint TC2030-IDC (Tag-Connect 6-Pin with Legs (PN# TC2030-IDC-NL))
pins: 1, 2, 3, 4, 5, 6

## ICSP-6 No Legs
designator J?
6 Pin Connector
footprint TC2030-IDC-NL (Tag-Connect 6-Pin with No Legs (PN# TC2030-IDC-NL))
pins: 1, 2, 3, 4, 5, 6

## KLMxGxWEBC-B031
designator U?, comment KLMBG4WEBC-B031  Operating Temperature: -25C/+85C  Footprint: FBGA-153
32GB Samsung eMMC NAND Flash
footprint BGA153C50P14X14_1150X1300X90 (BGA, 153-Leads, Body 11.50x13.00mmx0.90mm, Pitch 0.50mm)
pins: A3 DAT0, A4 DAT1, A5 DAT2, A6 VSS, B2 DAT3, B3 DAT4, B4 DAT5, B5 DAT6, B6 DAT7, C2 VDDI, C4 VSS, C6 VDD, E6 VDDF, E7 VSS, F5 VDDF, G5 VSS, H5 DATA STROBE, H10 VSS, J5 VSS, J10 VDDF, K5 RSTN, K8 VSS, K9 VDDF, M4 VDD, M5 CMD, M6 CLK, N2 VSS, N4 VDD, N5 VSS, P3 VDD, P4 VSS, P5 VDD, P6 VSS

## KR-5R5C474-R
designator C?
CAP SUPER 0.47F 5.5V RADIAL; Capacitance: 470mF; Tolerance: -20%, +80%; ESR (Equivalent Series Resistance): 50 Ohm; Lifetime @ Temp: 1000 Hrs @ 70°C; Mounting Hole: Through Hole; Voltage - Rated: 5.5V; Package / Case: Radial, Can; Lead Spacing: 0.197" (5.00mm); Size / Dimension: 0.531" Dia (13.50mm); Height - Seated (Max): 0.295" (7.50mm); Operating Temperature: -25°C ~ 70°C
footprint KR-5R5C474-R (CAP SUPER 0.47F 5.5V RADIAL)
pins: 1, 2

## LI0603E470R-10
designator L?  Impedance @ Frequency: 47 Ohm @ 100MHz  Current Rating: 500mA  Package / Case: 0603  (hidden comment: LI0603E470R-10)
FERRITE CHIP 47 OHMS 500MA 0603; DC Resistance (DCR): 100 mOhm Max; Filter Type: Differential Mode - Single; Height (Max): 0.037" (0.95mm)
footprint LI0603E470R-10 (FERRITE CHIP 47 OHMS 500MA 0603)
pins: 1, 2

## LT-LT1X62-MS8-8
designator U?
footprint LT-MS8_M (SOP, 8-Leads, Body 3x3mm, Pitch 0.65mm, IPC Low Density)
part A pins: 1 OUT (power) "Output. The output supplies power to the load.", 2 SENSE (in) "Sense. For fixed voltage versions, the SENSE pin is the input to the error amplifier. Optimum regulation will be obtained at the point where the SENSE pin is connected to the OUT pin of the regulator. In critical (See Datasheet)", 3 BYP "Bypass. The BYP pin is used to bypass the reference of the LT1762 regulators to achieve low noise performance from the regulator. The BYP pin is clamped internally to +/-0.6V (one VBE). A small capacitor from the output to (See Datasheet)", 4 GND (power) "Ground.", 5 ~{SHDN} (in) "Shutdown. The S\H\D\N\ pin is used to put the regulators into a low power shutdown state. The output will be off when the S\H\D\N\ pin is pulled low. The S\H\D\N\ pin can be driven either by 5V logic or opencollector logic (See Datasheet)", 8 IN (power) "Input. Power is supplied to the device through the IN pin. A bypass capacitor is required on this pin if the device is more than six inches away from the main input filter capacitor. In general, the output impedance of a (See Datasheet)"
part B pins: 6 NC, 7 NC

## LT-LTC2907-DDB-8
designator U?
IC MONITOR DUAL SUPPLY PREC 8DFN; Number of Voltages Monitored: 2; Output: Open Drain or Open Collector; Reset: Active Low; Reset Time: 140 ms Minimum; Voltage - Threshold: 2.5V, 3.3V, 5V, Adj; Type: Multi-Voltage Supervisor; Operating Temperature: -40°C ~ 85°C; Package / Case: 8-WFDFN Exposed Pad
footprint LT-DDB-8_V (SON, 8-Leads, Body 3x2mm, Pitch 0.5mm, Thermal Pad 2.2x0.61mm)
pins: 1 GND (power) "Ground.", 2 ~{RST} (oc) "Inverted Reset Logic Output. Pulls low when either V1 or VADJ is below the reset threshold and holds low for programmed delay time after all voltage inputs are above threshold. This pin has a weak pull up to VMAX and may be (See Datasheet)", 3 TMR (in) "(LTC2907 Only) Reset Delay Time Programming Pin. Attach an external capacitor (CTMR) to GND to set a reset delay time of 9ms/nF. Leaving the pin open generates a minimum delay of approximately 200ms. A 22nF capacitor will (See Datasheet)", 4 VCC (power) "Optional Power Supply Pin. VCC powers and maintains the correct operation of the RST and R\S\T\ pins in the complete absence of V1. If V1 is present, the greater of VCC or V1 (VMAX) powers the internal circuitry and the (See Datasheet)", 5 V1 (in) "Voltage Input 1. Select from 5V, 3.3V or 2.5V. Refer to Table 1 for details. The greater of (V1, VCC) is also the internal VCC (VMAX). Bypass this pin to ground with a 0.1uF (or greater) capacitor.", 6 VADJ (in) "Adjustable Voltage Input. Bypass this pin to ground with a 0.1uF (or greater) capacitor in a noisy environment.", 7 S1 (in) "The Voltage Threshold Select Three- State Input. Connect to V1, GND or leave unconnected in open state to select one of three possible input threshold levels (refer to Table 1).", 8 TOL (in) "Three-State Input for Supply Tolerance Selection (5%, 7.5% or 10%). Refer to Applications Information for tolerance selection chart (Table 3).", 9 EP (power) "Ground."

## LT-LTXXXXX-S5-5
designator U?, comment LT1761-3
IC REG LDO 3V 0.1A TSOT23-5
footprint LT-S5-5-TSOT-23_M (SOT23, 5-Leads, Body 2.90x1.63mm, Pitch 0.95mm, IPC Low Density)
pins: 1 IN (power) "Power is supplied to the device through the IN pin.", 2 GND (power) "Ground.", 3 ~{SHDN} (in) "Shutdown.", 4 BYP "Bypass. If not used, this pin must be left unconnected.", 5 OUT (power) "The output supplies power to the load. A minimum output capacitor of 1uF is required to prevent oscillations. Larger output capacitors will be required for applications with large transient loads to limit peak voltage (See Datasheet)"

## LTC3528
designator U?
1A, 1MHz Synchronous   Step-Up DC/DC Converter; Package: DFN-8; Operating Temperature: -40C/+125C
footprint DDB-8_V (SON, 8-Leads, Body 3x2mm, Pitch 0.5mm, Thermal Pad 2.2x0.61mm)
pins: 1 ~{SHDN} (in) "Logic Controlled Shutdown Input. There is an internal 4Mohm pull-down resistor on this pin.", 2 FB (in) "Feedback Input. Connect resistor divider tap to this pin.", 3 PGOOD (oc) "Power Good Comparator Output. This open-drain output is low when VFB < 10% from its regulation voltage.", 4 VOUT (power) "Output Voltage Sense and Drain Connection of the Internal Synchronous Rectifier. PCB trace length from VOUT to the output filter capacitor (4.7uF minimum) should be as short and wide as possible.", 5 SW "Switch Pin. Connect inductor between SW and VIN. Keep PCB trace lengths as short and wide as possible to reduce EMI. If the inductor current falls to zero, or S\H\D\N\ is low, an internal anti-ringing switch is connected (See Datasheet)", 6 PGND (power) "Power Ground. Provide a short direct PCB path between PGND and the (-) side of the input and output capacitors.", 7 SGND (power) "Signal Ground. Provide a short direct PCB path between SGND and the (-) side of the input and output capacitors.", 8 VIN (power) "Battery Input Voltage. Connect a minimum of 1uF ceramic decoupling capacitor from this pin to ground.", 9 EP (power) "The exposed pad must be soldered to the PCB ground plane. It serves as another ground connection and as a means of conducting heat away from the die."

## LTC4055EUF#PBF
designator U?
IC USB PWR MNGR BATT CHRGR 16QFN; Function: Charge Management; Battery Chemistry: Li-Ion; Voltage Supply: 4.35 V ~ 5.5 V; Operating Temperature: -40°C ~ 85°C; Package / Case: 16-WQFN Exposed Pad
footprint LTC4055EUF#PBF (QFN, 16-Leads, Body 4.1x4.1mm, Pitch 0.65mm, Thermal Pad 2.15x2.15mm, IPC Medium Density)
pins: 1 IN2 (power) "Input Supply. Connect to USB supply, VBUS. Used as main supply while connected to USB VBUS for power control to a USB device. Input current is limited to either 20% or 100% of the current programmed by the CLPROG pin as (See Datasheet)", 2 BAT (power) "Connect to a single-cell Li-Ion battery. Used as an output when charging the battery and as an input when supplying power to OUT. When the OUT pin potential drops below the BAT pin potential, an ideal diode function connects (See Datasheet)", 3 OUT (power) "Voltage Output. Used to provide controlled power to a USB device from either USB VBUS (IN1/IN2) or the battery (BAT) when the USB is not present. Can also be used as an input for battery charging when the USB is not present (See Datasheet)", 4 IN1 (power) "Input Supply. Connect to USB supply, VBUS. Used as main supply while connected to USB VBUS for power control to a USB device. Input current is limited to either 20% or 100% of the current programmed by the CLPROG pin as (See Datasheet)", 5 WALL (in) "Wall Adapter Present Input. Pulling this pin above 1V will disable charging from IN1/IN2 and disconnect the power path from IN1/IN2 to OUT. The A\C\P\R\ pin will also be pulled low to indicate that a wall adapter has been (See Datasheet)", 6 SHDN (in) "Shutdown Input. Pulling this pin greater than 1.2V will disable the entire part and place it in a low supply current mode of operation. All power paths will be disabled. A weak pull-down current is internally applied to this (See Datasheet)", 7 SUSP (in) "Suspend Mode Input. Pulling this pin above 1.2V will disable charging from IN1/IN2 and disconnect the power path from IN1/IN2 to OUT. The supply current will be reduced to comply with the USB specifi cation for Suspend mode. (See Datasheet)", 8 HPWR (in) "High Power Select. Used to control the amount of current drawn from the USB port. A voltage greater than 1.2V on the pin will set the current limit to 100% of the current programmed by the CLPROG pin and 100% of the charge (See Datasheet)", 9 CLPROG (in) "Current Limit Program. Connecting a resistor, RCLPROG to ground, programs the input to output current limit.", 10 GND (power) "Ground.", 11 PROG (in) "Charge Current Program. Connecting a resistor, RPROG, to ground programs the battery charge current.", 12 TIMER (in) "Timer Capacitor. Placing a capacitor CTIMER to GND sets the timer period.", 13 ~{ACPR} (oc) "Wall Adapter Present Output. Active low open-drain output pin. A low on this pin indicates that the wall adapter input comparator has had its input pulled above the input threshold and power is present on IN1/IN2 or OUT (i.e.(See Datasheet)", 14 ~{CHRG} (hiz) "Open-Drain Charge Status Output. When the battery is being charged, the C\H\R\G\ pin is pulled low by an internal N-channel MOSFET. When the timer runs out or the input supply or output supply is removed, the C\H\R\G\ pin is (See Datasheet)", 15 VNTC "Output Bias Voltage for NTC. A resistor from this pin to the NTC pin will set up the bias for an NTC thermistor.", 16 NTC (in) "Input to the NTC Thermistor Monitoring Circuits. Under normal operation, tie a thermistor from the NTC pin to ground and a resistor of equal value from NTC to VNTC. When the voltage on this pin is above 0.74 ?VVNTC (Cold(See Datasheet)", 17 EP (power) "Ground. The Exposed Pad must be soldered to a good thermally conductive PCB ground."

## LTST-C19FD1WT
designator DS?
LED RGB 605/525/470NM DIFF SMD; Color: Red, Green, Blue (RGB); Wavelength - Dominant: 605nm, 525nm, 470nm; Wavelength - Peak: 611nm, 520nm, 468nm; Millicandela Rating: 113mcd Red, 176mcd Green, 70mcd Blue; Voltage - Forward (Vf) (Typ): 2V Red, 3.5V Green, 3.5V Blue; Current - Test: 20mA; Viewing Angle: 130°; Lens Type: Diffused, White; Lens Style/Size: Rectangle with Flat Top, 2.1mm x 1.6mm; Package / Case: 4-SMD, No Lead; Size Dimensions: 2.10mm L x 1.60mm W; Height: 0.55mm
footprint LTST-C19FD1WT (LED RGB 605/525/470NM DIFF SMD)
pins: 1, 2, 3, 4

## LTST-C191KGKT
designator LED?  Package / Case: 0603
LED GREEN CLEAR THIN 0603 SMD; Voltage - Forward (Vf) (Typ): 2V; Viewing Angle: 130°; Lens Color: Colorless; Color: Green; Lens Transperancy: Clear
footprint LTST-C191KGKT (LED GREEN CLEAR THIN 0603 SMD)
pins: 1, 2

## LTST-C191KRKT
designator LED?
LED SUPER RED CLR THIN 0603 SMD; Wavelength - Dominant: 631nm; Wavelength - Peak: 639; Millicandela Rating: 54mcd; Voltage - Forward (Vf) (Typ): 2V; Current - Test: 20mA; Viewing Angle: 130°; Lens Transperancy: Clear; Lens Color: Colorless; Lens Style/Size: Rectangle with Flat Top, 1.10mm x 0.80mm; Color: Red; Package / Case: 0603
footprint LTST-C191KGKT (LED GREEN CLEAR THIN 0603 SMD)
pins: 1, 2

## LTST-C191KSKT
designator LED?
LED YELLOW CLEAR THIN 0603 SMD; Wavelength - Dominant: 591nm; Wavelength - Peak: 588nm; Millicandela Rating: 104mcd; Voltage - Forward (Vf) (Typ): 2.1V; Current - Test: 20mA; Viewing Angle: 130°; Lens Color: Colorless; Lens Style/Size: Rectangle with Flat Top, 1.10mm x 0.80mm; Color: Yellow; Lense Transperancy: Clear; Package / Case: 0603
footprint LTST-C191KGKT (LED GREEN CLEAR THIN 0603 SMD)
pins: 1, 2

## MBR120VLSFT1G
designator D?
DIODE SCHOTTKY 20V 1A SOD123FL; Voltage - Forward (Vf) (Max) @ If: 340mV @ 1A; Speed: Fast Recovery =< 500ns, > 200mA (Io); Current - Reverse Leakage @ Vr: 600µA @ 20V; Diode Type: Schottky; Voltage - DC Reverse (Vr) (Max): 20V; Current - Average Rectified (Io): 1A; Package / Case: SOD-123F
footprint SOD-123FL (SOD, 2-Leads, Body 2.7x1.65mm)
pins: 1 K, 2 A

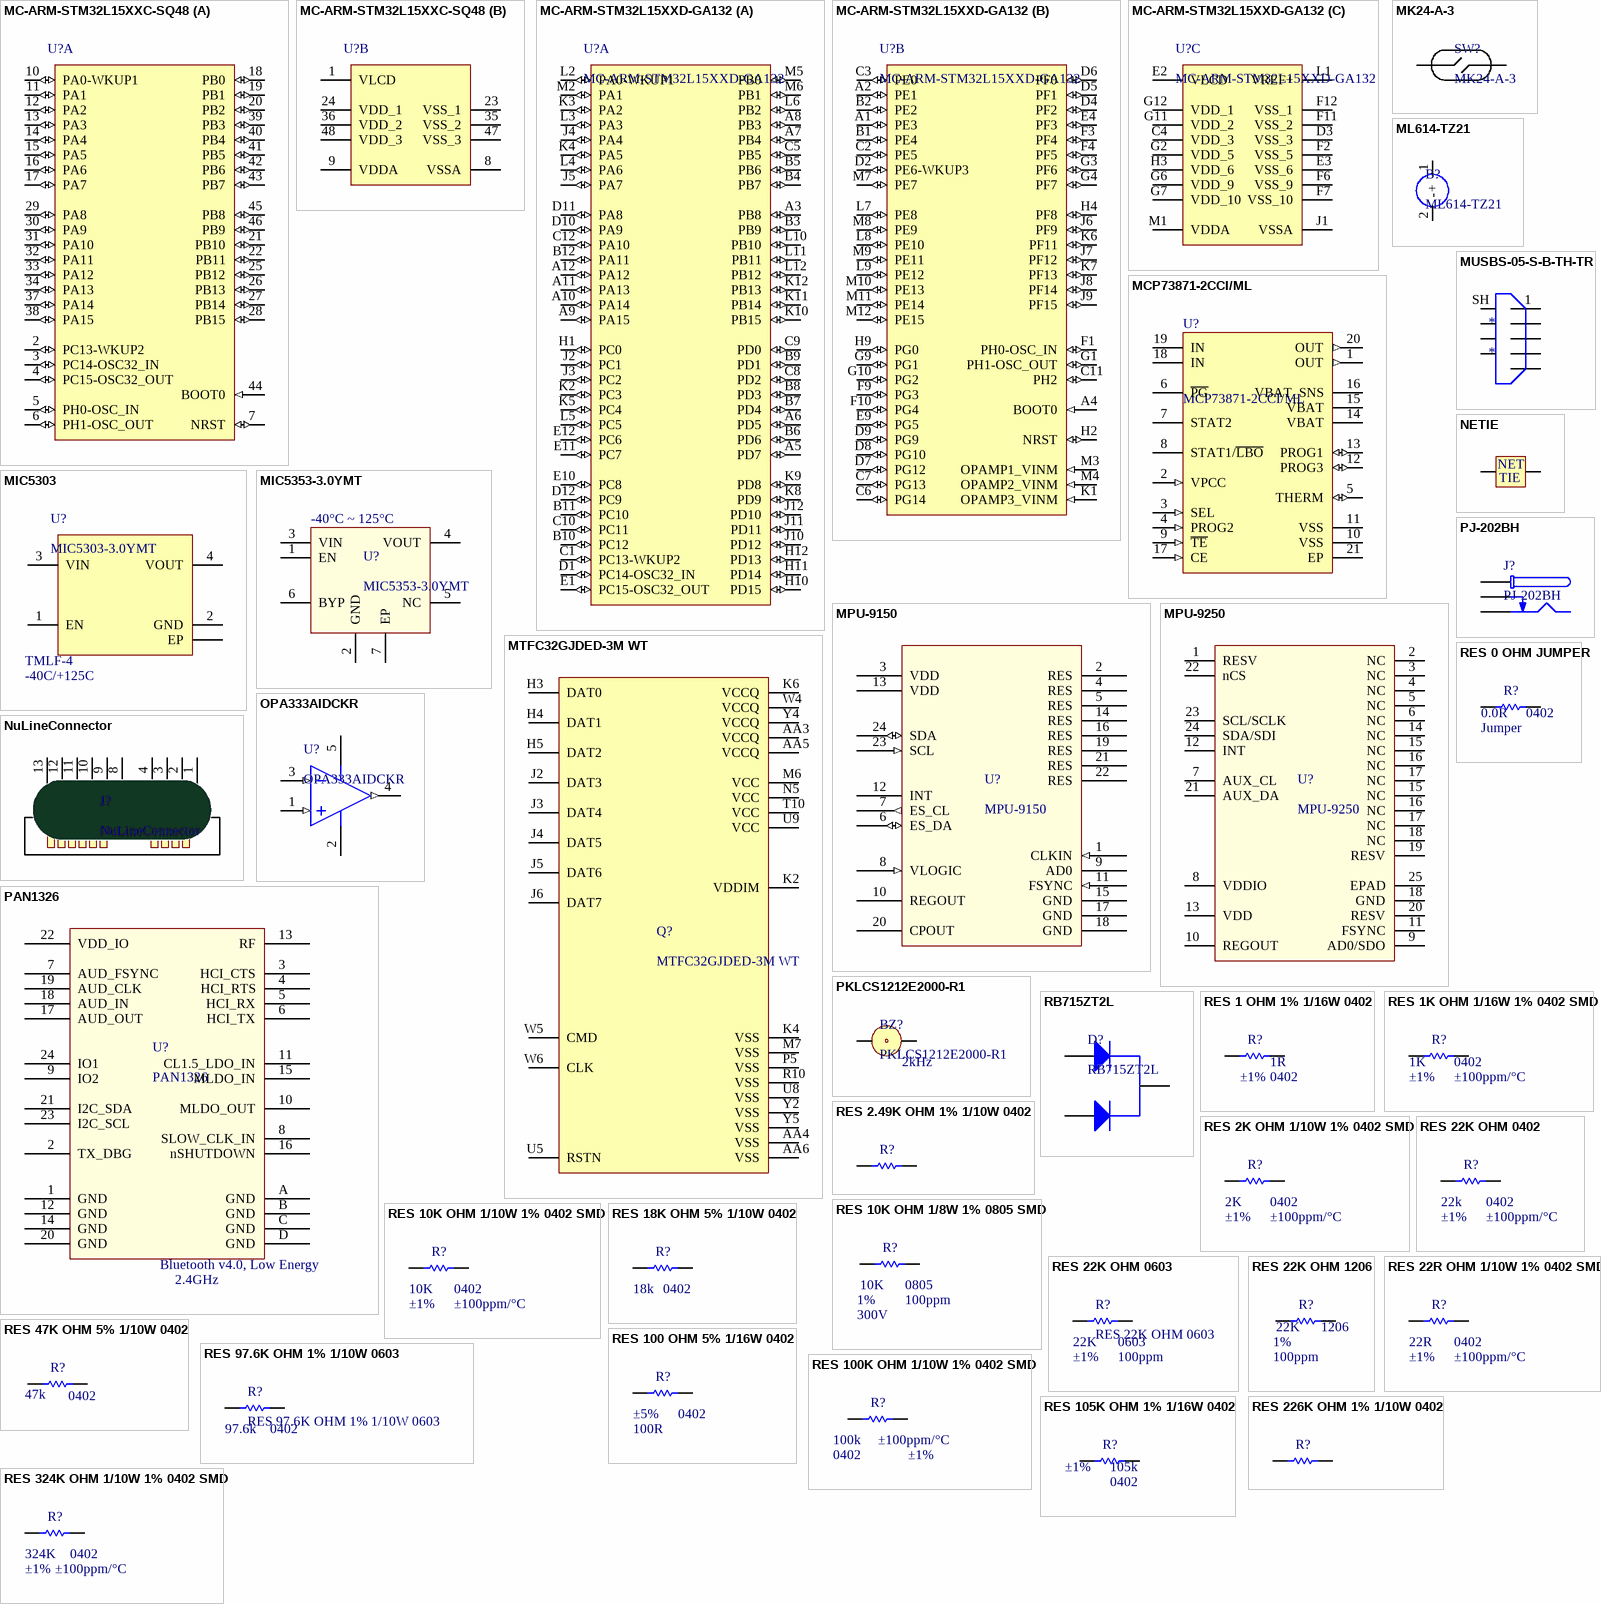
[diagram p2: symbols MC-ARM-STM32L15XXC-SQ48 to RES 324K OHM 1/10W 1% 0402 SMD]

## MC-ARM-STM32L15XXC-SQ48
designator U?
footprint STM-LQFP48_N (QFP, 48-Leads, Body 7x7mm, Pitch 0.5mm, IPC Medium Density)
part A pins: 2 PC13-WKUP2 (io) "PC13-WKUP2/PC13/WKUP2/RTC_TAMP1/RTC_TS/RTC_OUT", 3 PC14-OSC32_IN (io) "PC14-OSC32_IN/PC14/OSC32_IN", 4 PC15-OSC32_OUT (io) "PC15-OSC32_OUT/PC15/OSC32_OUT", 5 PH0-OSC_IN (io) "PH0-OSC_IN/PH0/OSC_IN", 6 PH1-OSC_OUT (io) "PH1-OSC_OUT/PH1/OSC_OUT", 7 NRST (io), 10 PA0-WKUP1 (io) "PA0-WKUP1/PA0/WKUP1/RTC_TAMP2/TIM2_CH1_ETR/TIM5_CH1/USART2_CTS/ADC_IN0/COMP1_INP", 11 PA1 (io) "PA1/TIM2_CH2/TIM5_CH2/USART2_RTS/LCD_SEG0/ADC_IN1/COMP1_INP/OPAMP1_VINP", 12 PA2 (io) "PA2/TIM2_CH3/TIM5_CH3/TIM9_CH1/USART2_TX/LCD_SEG1/ADC_IN2/COMP1_INP/OPAMP1_VINM", 13 PA3 (io) "PA3/TIM2_CH4/TIM5_CH4/TIM9_CH2/USART2_RX/LCD_SEG2/ADC_IN3/COMP1_INP/OPAMP1_VOUT", 14 PA4 (io) "PA4/SPI1_NSS/SPI3_NSS/I2S3_WS/USART2_CK/ADC_IN4/DAC_OUT1/COMP1_INP", 15 PA5 (io) "PA5/TIM2_CH1_ETR/SPI1_SCK/ADC_IN5/DAC_OUT2/COMP1_INP", 16 PA6 (io) "PA6/TIM3_CH1/TIM10_CH1/SPI1_MISO/LCD_SEG3/ADC_IN6/COMP1_INP/OPAMP2_VINP", 17 PA7 (io) "PA7/TIM3_CH2/TIM11_CH1/SPI1_MOSI/LCD_SEG4/ADC_IN7/COMP1_INP/OPAMP2_VINM", 18 PB0 (io) "PB0/TIM3_CH3/LCD_SEG5/ADC_IN8/COMP1_INP/VREF_OUT/OPAMP2_VOUT", 19 PB1 (io) "PB1/TIM3_CH4/LCD_SEG6/ADC_IN9/COMP1_INP/VREF_OUT", 20 PB2 (io) "PB2/BOOT1/COMP1_INP", 21 PB10 (io) "PB10/TIM2_CH3/I2C2_SCL/USART3_TX/LCD_SEG10", 22 PB11 (io) "PB11/TIM2_CH4/I2C2_SDA/USART3_RX/LCD_SEG11", 25 PB12 (io) "PB12/TIM10_CH1/I2C2_SMBA/SPI2_NSS/I2S2_WS/USART3_CK/LCD_SEG12/ADC_IN18/COMP1_INP", 26 PB13 (io) "PB13/TIM9_CH1/SPI2_SCK/I2S2_CK/USART3_CTS/LCD_SEG13/ADC_IN19/COMP1_INP", 27 PB14 (io) "PB14/TIM9_CH2/SPI2_MISO/USART3_RTS/LCD_SEG14/ADC_IN20/COMP1_INP", 28 PB15 (io) "PB15/TIM11_CH1/SPI2_MOSI/I2S2_SD/LCD_SEG15/ADC_IN21/COMP1_INP/RTC_REFIN", 29 PA8 (io) "PA8/USART1_CK/MCO/LCD_COM0", 30 PA9 (io) "PA9/USART1_TX/LCD_COM1", 31 PA10 (io) "PA10/USART1_RX/LCD_COM2", 32 PA11 (io) "PA11/USART1_CTS/USB_DM/SPI1_MISO", 33 PA12 (io) "PA12/USART1_RTS/USB_DP/SPI1_MOSI", 34 PA13 (io) "PA13/JTMS-SWDAT", 37 PA14 (io) "PA14/JTCK-SWCLK", 38 PA15 (io) "PA15/JTDI/TIM2_CH1_ETR/SPI1_NSS/SPI3_NSS/I2S3_WS/LCD_SEG17", 39 PB3 (io) "PB3/JTDO/TIM2_CH2/SPI1_SCK/SPI3_SCK/I2S3_CK/LCD_SEG7/COMP2_INM", 40 PB4 (io) "PB4/NJTRST/TIM3_CH1/SPI1_MISO/SPI3_MISO/LCD_SEG8/COMP2_INP", 41 PB5 (io) "PB5/TIM3_CH2/I2C1_SMBA/SPI1_MOSI/SPI3_MOSI/I2S3_SD/LCD_SEG9/COMP2_INP", 42 PB6 (io) "PB6/TIM4_CH1/I2C1_SCL/USART1_TX/COMP2_INP", 43 PB7 (io) "PB7/TIM4_CH2/I2C1_SDA/USART1_RX/PVD_IN/COMP2_INP", 44 BOOT0 (in), 45 PB8 (io) "PB8/TIM4_CH3/TIM10_CH1/I2C1_SCL/LCD_SEG16", 46 PB9 (io) "PB9/TIM4_CH4/TIM11_CH1/I2C1_SDA/LCD_COM3"
part B pins: 1 VLCD (power), 8 VSSA (power), 9 VDDA (power), 23 VSS_1 (power), 24 VDD_1 (power), 35 VSS_2 (power), 36 VDD_2 (power), 47 VSS_3 (power), 48 VDD_3 (power)